# Altium schematic symbol library Schlib.SchLib: 3 symbols
Pins are listed as number, name and electrical type; pins without a type are passive.

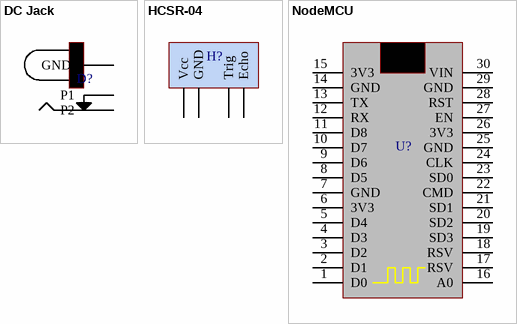
[diagram p0: symbols DC Jack to NodeMCU]

## DC Jack
designator D?
footprint DC Jack
pins: 1 GND , 2 P2, 3 P1

## HCSR-04
designator H?
footprint HCSR-04
pins: 1 GND, 2 Echo, 3 Trig, 4 Vcc

## NodeMCU
designator U?
footprint ESP8266
pins: 1 D0, 2 D1, 3 D2, 4 D3, 5 D4, 6 3V3, 7 GND, 8 D5, 9 D6, 10 D7, 11 D8, 12 RX, 13 TX, 14 GND, 15 3V3, 16 A0, 17 RSV, 18 RSV, 19 SD3, 20 SD2, 21 SD1, 22 CMD, 23 SD0, 24 CLK, 25 GND, 26 3V3, 27 EN, 28 RST, 29 GND, 30 VIN